# Altium footprint library PcbLib2.PcbLib: 7 footprints
Each footprint in its own frame and in the unit in brackets; x right, y up, seen from the top. Pads: shape width x height; smd on the part's side, far side on the other; paste and mask are expansions set on the pad; w line width, h text height; cw(c..) or ccw(c..) is an arc to the next point about the centre after c.
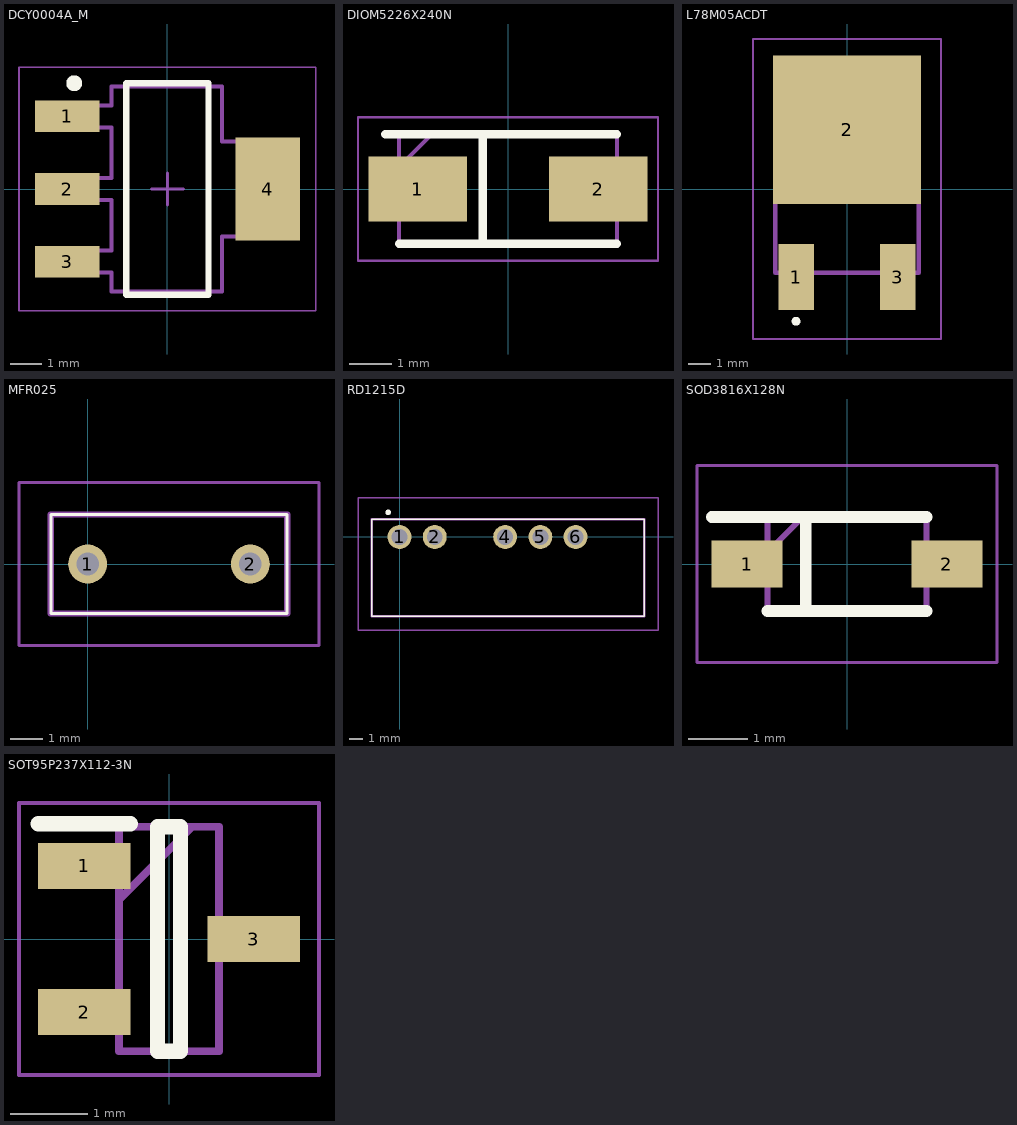
[diagram p0: the footprints below, top view; thin cyan lines are the x and y axes]

## DCY0004A_M [mm]
pads (4):
  rect 2.05x1 smd paste+0 mask+0.051: 1(-3.175,2.3) 2(-3.175,0) 3(-3.175,-2.3)
  rect 2.05x3.25 smd paste+0 mask+0.051: 4(3.175,0)
Top Overlay:
  circle w0.25: c-2.95,3.35 r0.125
  lines w0.2: -1.3,-3.35 -1.3,3.35 1.3,3.35 1.3,-3.35 -1.3,-3.35
  text ".Designator" at -3.492,-0.635 h1.27
Mechanical 13:
  lines w0.127: -3.525,-2.65 -2.797,-2.65 -2.612,-2.65 -2.374,-2.65 -2.003,-2.65 -1.775,-2.65 -1.775,-3.25 1.725,-3.25 1.725,-1.5 1.953,-1.5 2.324,-1.5 2.562,-1.5 2.747,-1.5 3.475,-1.5 3.475,1.5 2.747,1.5 2.562,1.5 2.324,1.5 1.953,1.5 1.725,1.5 1.725,3.25 -1.775,3.25 -1.775,2.65 -2.003,2.65 -2.374,2.65 -2.612,2.65 -2.797,2.65 -3.525,2.65 -3.525,1.95 -2.797,1.95 -2.612,1.95 -2.374,1.95 -2.003,1.95 -1.775,1.95 -1.775,0.35 -2.003,0.35 -2.374,0.35 -2.612,0.35 -2.797,0.35 -3.525,0.35 -3.525,-0.35 -2.797,-0.35 -2.612,-0.35 -2.374,-0.35 -2.003,-0.35 -1.775,-0.35 -1.775,-1.95 -2.003,-1.95 -2.374,-1.95 -2.612,-1.95 -2.797,-1.95 -3.525,-1.95 -3.525,-2.65
  text ".Designator" at -3.492,-0.635 h1.27
Mechanical 15:
  lines w0.05: -4.7,-3.85 4.7,-3.85 4.7,3.85 -4.7,3.85 -4.7,-3.85
  lines w0.1: -0.5,0 0.5,0 ; 0,-0.5 0,0.5
3D body "DCY0004A.stp": height 1.68, standoff 0, extent -3.5,-3.25 3.5,3.25

## DIOM5226X240N [mm]
pads (2):
  rect 2.35x1.55 smd: 1(-2.15,0) 2(2.15,0)
Top Overlay:
  lines w0.2: -2.925,1.302 2.598,1.302 ; -2.598,-1.302 2.598,-1.302 ; -0.6,-1.3 -0.6,1.3
Mechanical 13:
  lines w0.1: -2.598,0.528 -1.822,1.302 ; -2.598,-1.302 -2.598,1.302 2.598,1.302 2.598,-1.302 -2.598,-1.302
Mechanical 15:
  lines w0.05: -3.575,-1.71 -3.575,1.71 3.575,1.71 3.575,-1.71 -3.575,-1.71
3D body "SMAJ15A-13-F.stp": height 2.11, standoff 0, extent -2.541,-1.398 2.539,1.402

## L78M05ACDT [mm]
pads (3):
  rect 1.6x3 smd: 1(-2.3,-3.975) 3(2.3,-3.975)
  rect 6.7x6.7 smd: 2(0,2.675)
Top Overlay:
  lines w0.2: -2.4,-5.975 ccw(c-2.3,-5.975) -2.2,-5.975 ccw(c-2.3,-5.975) -2.4,-5.975
Mechanical 13:
  lines w0.2: -3.25,-3.775 -3.25,2.325 3.25,2.325 3.25,-3.775 -3.25,-3.775
Mechanical 15:
  lines w0.1: -4.25,-6.775 -4.25,6.775 4.25,6.775 4.25,-6.775 -4.25,-6.775
3D body "L78M05ACDT.stp": height 2.52, standoff 0, extent -3.365,-5.17 3.365,5.17

## MFR025 [mm]
pads (2):
  round 1.217 hole 0.71: 1(0,0) 2(5.1,0)
Top Overlay:
  lines w0.1: -1.15,-1.55 -1.15,1.55 6.25,1.55 6.25,-1.55 -1.15,-1.55
Mechanical 13:
  lines w0.2: -1.15,-1.55 -1.15,1.55 6.25,1.55 6.25,-1.55 -1.15,-1.55
Mechanical 15:
  lines w0.1: -2.15,-2.55 -2.15,2.55 7.25,2.55 7.25,-2.55 -2.15,-2.55
3D body "MF-R025.stp": height 6.6, standoff -10.1, extent -1.279,-1.12 6.119,1.98

## RD1215D [mm]
pads (5):
  round 1.725 hole 1.15: 1(0,0) 2(2.54,0) 4(7.62,0) 5(10.16,0) 6(12.7,0)
Top Overlay:
  lines w0.1: -2,-5.73 -2,1.27 17.65,1.27 17.65,-5.73 -2,-5.73
  lines w0.3: -0.875,1.77 cw(c-0.825,1.77) -0.775,1.77 cw(c-0.825,1.77) -0.875,1.77
Mechanical 13:
  lines w0.2: -2,-5.73 -2,1.27 17.65,1.27 17.65,-5.73 -2,-5.73
Mechanical 15:
  lines w0.1: -3,-6.73 -3,2.82 18.65,2.82 18.65,-6.73 -3,-6.73
3D body "RD-1215D.stp": height 9.7, standoff -4.6, extent -1.995,-5.485 17.655,1.565

## SOD3816X128N [mm]
pads (2):
  rect 1.2x0.8 smd: 1(-1.7,0) 2(1.7,0)
Top Overlay:
  lines w0.2: -2.3,0.8 1.35,0.8 ; -1.35,-0.8 1.35,-0.8 ; -0.7,-0.8 -0.7,0.8
Mechanical 13:
  lines w0.1: -1.35,0.2 -0.75,0.8 ; -1.35,-0.8 -1.35,0.8 1.35,0.8 1.35,-0.8 -1.35,-0.8
Mechanical 15:
  lines w0.05: -2.55,-1.675 -2.55,1.675 2.55,1.675 2.55,-1.675 -2.55,-1.675
3D body "MMSZ5240B.stp": height 1.28, standoff 0, extent -1.875,-0.8 1.875,0.8

## SOT95P237X112-3N [mm]
pads (3):
  rect 1.2x0.6 smd: 1(-1.1,0.95) 2(-1.1,-0.95) 3(1.1,0)
Top Overlay:
  lines w0.2: -1.7,1.5 -0.5,1.5 ; -0.15,-1.46 -0.15,1.46 0.15,1.46 0.15,-1.46 -0.15,-1.46
Mechanical 13:
  lines w0.1: -0.65,0.51 0.3,1.46 ; -0.65,-1.46 -0.65,1.46 0.65,1.46 0.65,-1.46 -0.65,-1.46
Mechanical 15:
  lines w0.05: -1.95,-1.77 -1.95,1.77 1.95,1.77 1.95,-1.77 -1.95,-1.77
3D body "FDN340P.stp": height 1.12, standoff 0, extent -1.185,-1.46 1.185,1.46